# EAGLE library part RT4812 (library USB_Charger)
Digikey Part# RT4812GJ8FCT-ND
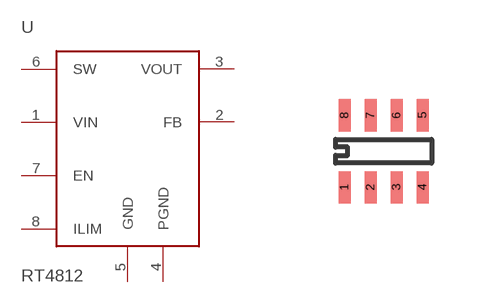
[diagram p0: symbol with the pads of TSOT-23-8; footprint TSOT-23-8]

Designator prefix U

## RT4812  [TSOT-23-8]
1  VIN
2  FB
3  VOUT
4  PGND
5  GND
6  SW
7  EN
8  ILIM

## Footprint TSOT-23-8 (pad centres in mm)
smd 0.3 x 0.8: 1 -0.975,-0.9; 2 -0.325,-0.9; 3 0.325,-0.9; 4 0.975,-0.9; 5 0.975,0.9; 6 0.325,0.9; 7 -0.325,0.9; 8 -0.975,0.9